# Altium footprint library quartz.PcbLib: 12 footprints
Each footprint in its own frame and in the unit in brackets; x right, y up, seen from the top. Pads: shape width x height; smd on the part's side, far side on the other; paste and mask are expansions set on the pad; w line width, h text height; cw(c..) or ccw(c..) is an arc to the next point about the centre after c.
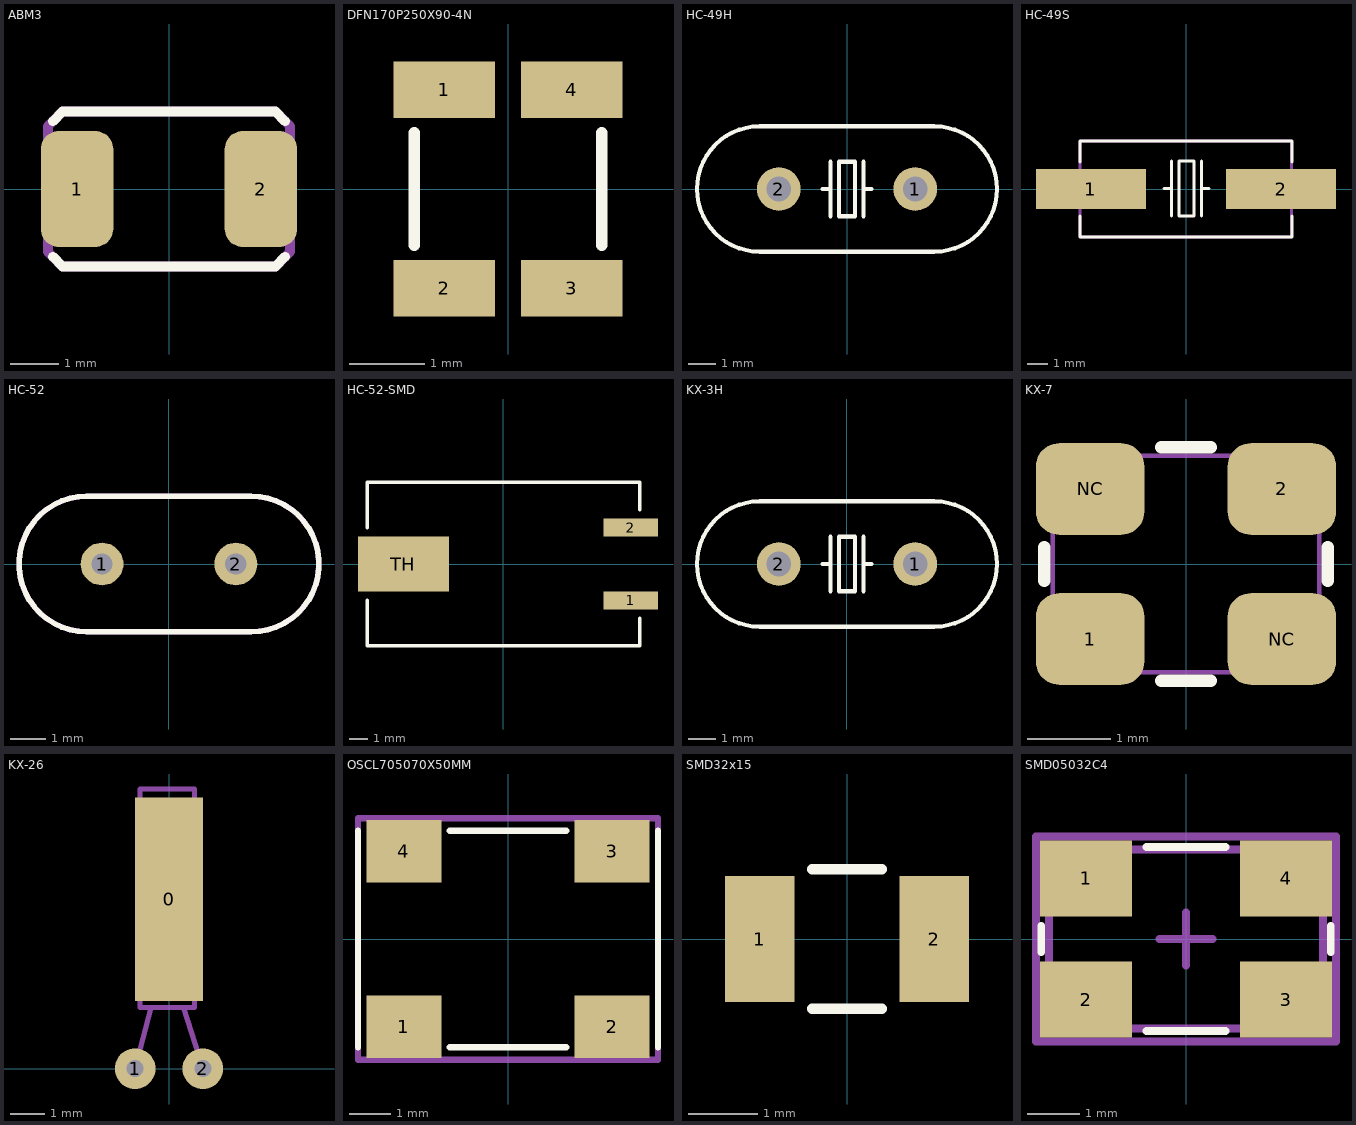
[diagram p0: the footprints below, top view; thin cyan lines are the x and y axes]

## ABM3 [mm] "5.0 X 3.2 X 1.30mm"
height 1.3
pads (2):
  rrect50% 1.5x2.4 smd: 1(-1.9,0) 2(1.9,0)
Top Overlay:
  lines w0.2: -2.4,-1.4 -2.2,-1.6 2.2,-1.6 2.4,-1.4 ; -2.4,1.4 -2.2,1.6 2.2,1.6 2.4,1.4
  text "." at -2.8,1.6 h0.1
Top Courtyard:
  lines w0.2: -2.5,-1.3 -2.2,-1.6 2.2,-1.6 2.5,-1.3 2.5,1.3 2.2,1.6 -2.2,1.6 -2.5,1.3 -2.5,-1.3
3D body: height 0.25, standoff 0, extent -2.5,-1.6 2.5,1.6

## DFN170P250X90-4N [mm] "DFN, 4-Leads, Body 3,20x2,50mm, Pitch 1,70mm, IPC Medium Density"
height 0.9
pads (4):
  rect 1.35x0.75 smd: 1(-0.85,1.325) 2(-0.85,-1.325) 3(0.85,-1.325) 4(0.85,1.325)
Top Overlay:
  lines w0.15: -1.25,-0.75 -1.25,0.75 ; 1.25,-0.75 1.25,0.75
  text "." at -1.25,2.1 h0.1
3D body "tsx-3225.STEP": height 0.6, standoff 0, extent -1.25,-1.6 1.25,1.6

## HC-49H [mm]
pads (2):
  round 1.6 hole 0.9: 1(2.5,0) 2(-2.5,0)
Top Overlay:
  lines w0.15: -0.9,0 -0.6,0 ; -0.6,-1 -0.6,1 ; 0.6,-1 0.6,1 ; 0.6,0 0.9,0 ; -3.2,-2.3 cw(c-3.2,0) -3.2,2.3 0,2.3 3.2,2.3 cw(c3.2,0) 3.2,-2.3 0,-2.3 -3.2,-2.3 ; -0.3,-1 0,-1 0.3,-1 0.3,1 0,1 -0.3,1 -0.3,-1
3D body "HC-49.STEP": height 3.5, standoff -3, extent -5.4,-2.25 5.4,2.25

## HC-49S [mm]
pads (2):
  rect 5.5x2 smd: 1(-4.75,0) 2(4.75,0)
Top Overlay:
  lines w0.15: -5.3,-1.35 -5.3,-2.4 5.3,-2.4 5.3,-1.35 ; -5.3,1.35 -5.3,2.4 5.3,2.4 5.3,1.35 ; -1.1,0.025 -0.725,0.025 ; -0.725,-1.35 -0.725,0.025 ; -0.725,1.4 -0.725,0.025 ; 0.775,-1.35 0.775,0.025 ; 0.775,1.4 0.775,0.025 ; 1.15,0.025 0.775,0.025 ; -0.35,-1.35 0.025,-1.35 0.4,-1.35 0.4,0.025 0.4,1.4 0.025,1.4 -0.35,1.4 -0.35,0.025 -0.35,-1.35
Mechanical 29:
  lines w0.15: -5.3,-2.4 -5.3,2.4 5.275,2.4 5.275,-2.4 -5.3,-2.4
  text ".Designator" at -3.4,-0.3 h1
3D body "HC-49S.STEP": height 4.35, standoff 0, extent -6.175,-2.35 6.125,2.35

## HC-52 [mm]
height 8.9
pads (2):
  round 1.2 hole 0.6: 1(-1.875,0) 2(1.875,0)
Top Overlay:
  lines w0.15: -2.3,-1.9 cw(c-2.3,0) -2.3,1.9 2.3,1.9 cw(c2.303,0) 2.3,-1.9 -2.3,-1.9
Mechanical 1:
  lines w0.15: -2.3,-1.9 cw(c-2.3,0) -2.3,1.9 2.3,1.9 cw(c2.303,0) 2.3,-1.9 -2.3,-1.9
Mechanical 29:
  lines w0.15: -4.2,0 cw(c-2.3,0) -2.3,1.9 0,1.9 2.3,1.9 cw(c2.3,0) 4.2,0 cw(c2.3,0) 2.3,-1.9 0,-1.9 -2.3,-1.9 cw(c-2.3,0) -4.2,0
  text ".Designator" at -2.7,-0.3 h1
3D body: height 8.9, standoff 0, extent -4.199,-1.9 4.202,1.9

## HC-52-SMD [mm]
height 3.4
pads (3):
  rect 3x1 smd: 1(7,-2) 2(7,2)
  rect 5x3 smd: TH(-5.5,0)
Top Overlay:
  lines w0.2: -7.5,-2 -7.5,-4.5 7.5,-4.5 7.5,-3 ; -7.5,2 -7.5,4.5 7.5,4.5 7.5,3
3D body "HC-52-SMD.STEP": height 4.05, standoff -0.24, extent -5.6,-4.1 7.4,4.16

## KX-3H [mm]
pads (2):
  round 1.6 hole 0.9: 1(2.5,0) 2(-2.5,0)
Top Overlay:
  lines w0.15: -0.9,0 -0.6,0 ; -0.6,-1 -0.6,1 ; 0.6,-1 0.6,1 ; 0.6,0 0.9,0 ; -3.2,-2.3 cw(c-3.2,0) -3.2,2.3 0,2.3 3.2,2.3 cw(c3.2,0) 3.2,-2.3 0,-2.3 -3.2,-2.3 ; -0.3,-1 0,-1 0.3,-1 0.3,1 0,1 -0.3,1 -0.3,-1
3D body "HC-49.STEP": height 3.5, standoff -3, extent -5.4,-2.25 5.4,2.25

## KX-7 [mm] "DFN, 4-Leads, Body 2,50x3,20mm, Pitch 2,10mm, IPC Medium Density"
height 0.8
pads (4):
  rrect50% 1.3x1.1 smd: 1(-1.15,-0.9) 2(1.15,0.9) NC(-1.15,0.9) NC(1.15,-0.9)
Top Overlay:
  lines w0.15: -1.7,-0.2 -1.7,0.2 ; -0.3,-1.4 0.3,-1.4 ; -0.3,1.4 0.3,1.4 ; 1.7,-0.2 1.7,0.2
  text "." at -2,-1.7 h0.1
Top Courtyard:
  lines w0.05: -1.6,-1.3 -1.6,1.3 1.6,1.3 1.6,-1.3 -1.6,-1.3
3D body: height 0.6, standoff 0, extent -1.6,-1.3 1.6,1.3
3D body: height 0.8, standoff 0.6, extent -1.5,-1.2 1.5,1.2

## KX-26 [mm] "KX-26 - 32768"
pads (3):
  rect 2x6 smd: 0(0,5)
  round 1.2 hole 0.5: 1(-1,0) 2(1,0)
Mechanical 29:
  lines w0.15: -1,0 -0.525,1.8 ; 0.425,1.8 1,0 ; -0.85,1.8 -0.85,8.25 0.75,8.25 0.75,1.8 -0.85,1.8
  text ".Designator" at 0.5,2.1 h1
3D body "KX-26.STEP": height 1.95, standoff -2, extent -1.15,-0.125 1.15,8.225

## OSCL705070X50MM [mm] "OSC 7пїЅ6 пїЅпїЅ"
height 1.3
pads (4):
  rect 1.8x1.5 smd: 1(-2.5,-2.1) 2(2.5,-2.1) 3(2.5,2.1) 4(-2.5,2.1)
Top Overlay:
  lines w0.15: -3.6,-2.6 -3.6,2.6 ; -1.4,-2.6 1.4,-2.6 ; -1.4,2.6 1.4,2.6 ; 3.6,-2.6 3.6,2.6
  text "." at -3,-3.4 h0.1
Top Courtyard:
  lines w0.15: -3.6,-2.9 3.6,-2.9 3.6,2.9 -3.6,2.9 -3.6,-2.9
Top Component Outline:
  lines w0.15: -3.6,-2.9 3.6,-2.9 3.6,2.9 -3.6,2.9 -3.6,-2.9
3D body: height 1.3, standoff 0.25, extent -3.6,-2.6 3.6,2.6

## SMD32x15 [mm]
height 0.8
pads (2):
  rect 1x1.8 smd: 1(-1.25,0) 2(1.25,0)
Top Overlay:
  lines w0.15: -0.5,-1 0.5,-1 ; -0.5,1 0.5,1
3D body: height 1, standoff 0, extent -1.25,-0.75 1.25,0.75

## SMD05032C4 [mm] "DFN, 4-Leads, Body 3,20x5,00mm, Pitch 3,80mm, IPC Medium Density"
height 1
pads (4):
  rect 1.75x1.45 smd: 1(-1.9,1.15) 2(-1.9,-1.15) 3(1.9,-1.15) 4(1.9,1.15)
Top Overlay:
  lines w0.15: -2.75,-0.25 -2.75,0.25 ; -0.75,-1.75 0.75,-1.75 ; -0.75,1.75 0.75,1.75 ; 2.75,-0.25 2.75,0.25
  text "." at -3.25,1.75 h0.1
Mechanical 13:
  lines w0.15: -2.6,-1.7 2.6,-1.7 2.6,1.7 -2.6,1.7 -2.6,-1.7
Mechanical 15:
  lines w0.15: -0.5,0 0.5,0 ; 0,-0.5 0,0.5 ; -2.85,-1.95 2.85,-1.95 2.85,1.95 -2.85,1.95 -2.85,-1.95
3D body: height 1, standoff 0.1, extent -2.6,-1.7 2.6,1.7